# EAGLE library part INA226AIDGST (library mmWAVE)
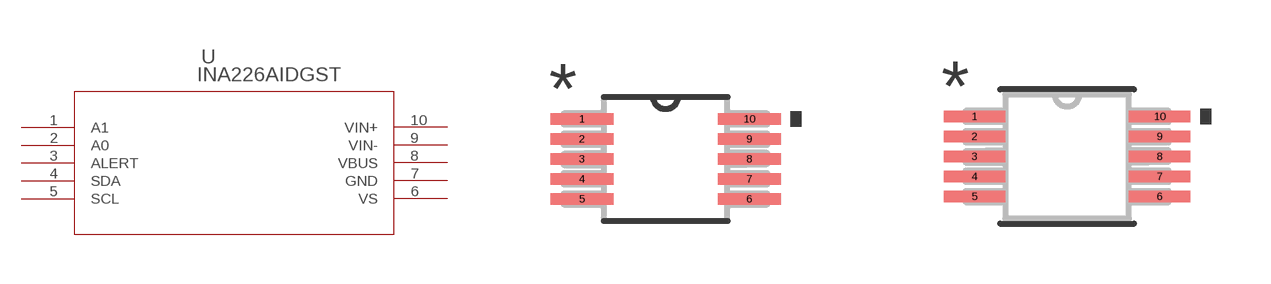
[diagram p3: symbol with the pads of DGS10; footprints DGS10, DGS10-M]

Designator prefix U

## INA226AIDGST (COPYRIGHT: Copyright (C) 2025 Ultra Librarian. All rights reserved.; MANUFACTURER_PART_NUMBER: INA226AIDGST; MFR_NAME: Texas Instruments)  [DGS10]
1  A1  pas
2  A0  pas
3  ALERT  out
4  SDA
5  SCL  in
6  VS  pwr
7  GND  pwr
8  VBUS  in
9  VIN-  in
10  VIN+  in

## INA226AIDGSTDGS10-M (COPYRIGHT: Copyright (C) 2025 Ultra Librarian. All rights reserved.; MANUFACTURER_PART_NUMBER: INA226AIDGST; MFR_NAME: Texas Instruments)  [DGS10-M]
Pads as for DGS10

## INA226AIDGSTDGS10-L (COPYRIGHT: Copyright (C) 2025 Ultra Librarian. All rights reserved.; MANUFACTURER_PART_NUMBER: INA226AIDGST; MFR_NAME: Texas Instruments)  [DGS10-L]
Pads as for DGS10

## Footprint DGS10 (pad centres in mm)
smd 1.575 x 0.279: 1 -2.095,1; 2 -2.095,0.5; 3 -2.095,0; 4 -2.095,-0.5; 5 -2.095,-1; 6 2.095,-1; 7 2.095,-0.5; 8 2.095,0; 9 2.095,0.5; 10 2.095,1

## Footprint DGS10-M (pad centres in mm)
smd 1.537 x 0.279: 1 -2.318,1; 2 -2.318,0.5; 3 -2.318,0; 4 -2.318,-0.5; 5 -2.318,-1; 6 2.318,-1; 7 2.318,-0.5; 8 2.318,0; 9 2.318,0.5; 10 2.318,1

## Footprint DGS10-L (pad centres in mm)
smd 1.118 x 0.229: 1 -2.121,1; 2 -2.121,0.5; 3 -2.121,0; 4 -2.121,-0.5; 5 -2.121,-1; 6 2.121,-1; 7 2.121,-0.5; 8 2.121,0; 9 2.121,0.5; 10 2.121,1